# Altium schematic symbol library LM25085.Schlib: 1 symbol
Pins are listed as number, name and electrical type; pins without a type are passive.

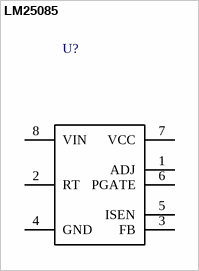
[diagram p0: symbol LM25085]

## LM25085
designator U?  (value not drawn)
Buck Controller, 42V Input, Adj, LM25085
pins: 1 ADJ, 2 RT, 3 FB, 4 GND, 5 ISEN, 6 PGATE, 7 VCC, 8 VIN